# Altium schematic symbol library switch-coto.SCHLIB: 3 symbols
Pins are listed as number, name and electrical type; pins without a type are passive.

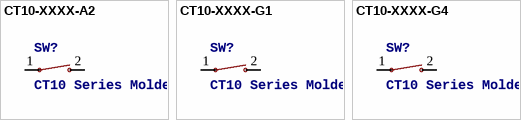
[diagram p0: symbols CT10-XXXX-A2 to CT10-XXXX-G4]

## CT10-XXXX-A2
designator SW?, comment CT10 Series Molded Switch   Source: www.cotorelay.com .. Coto_Technology__CT10-1530-G1.pdf
footprint CT10-XXXX-A2
pins: 1, 2

## CT10-XXXX-G1
designator SW?, comment CT10 Series Molded Switch   Source: www.cotorelay.com .. Coto_Technology__CT10-1530-G1.pdf
footprint CT10-XXXX-G1
pins: 1, 2

## CT10-XXXX-G4
designator SW?, comment CT10 Series Molded Switch   Source: www.cotorelay.com .. Coto_Technology__CT10-1530-G1.pdf
footprint CT10-XXXX-G4
pins: 1, 2